# EAGLE library part SC18IM700 (library digital)
SC18IM700: Master I2C-bus controller (Philips) 3.6V, 400kHz
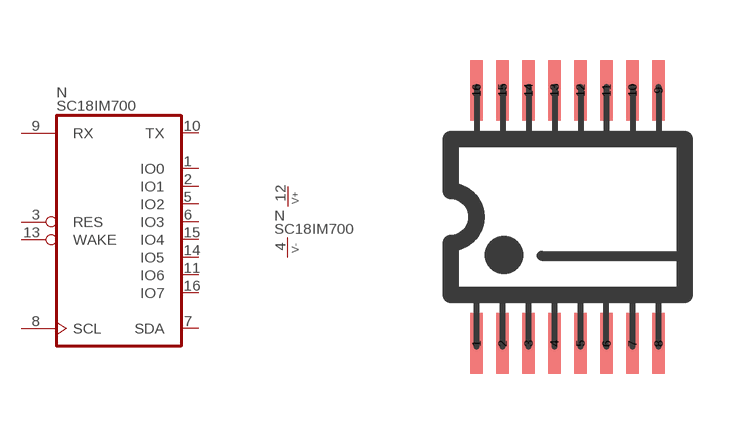
[diagram p58: symbol with the pads of TSSOP16; footprint TSSOP16]

Designator prefix N; gates  =SC18IM700 P=V+-

## SC18IM700  [TSSOP16]
1   :IO0  out
2   :IO1  out
3   :RES  in
4  P:V-  pwr
5   :IO2  out
6   :IO3  out
7   :SDA
8   :SCL  in
9   :RX  in
10   :TX  out
11   :IO6  out
12  P:V+  pwr
13   :WAKE  in
14   :IO5  out
15   :IO4  out
16   :IO7  out

## Footprint TSSOP16 (pad centres in mm)
TSSOP16, SMD TSSOP IC package (0.65mm pitch), 16 pins
smd 0.305 x 1.524: 1 -2.275,-3.169; 2 -1.625,-3.169; 3 -0.975,-3.169; 4 -0.325,-3.169; 5 0.325,-3.169; 6 0.975,-3.169; 7 1.625,-3.169; 8 2.275,-3.169; 9 2.275,3.169; 10 1.625,3.169; 11 0.975,3.169; 12 0.325,3.169; 13 -0.325,3.169; 14 -0.975,3.169; 15 -1.625,3.169; 16 -2.275,3.169